# Altium schematic symbol library U1881.SchLib: 1 symbol
Pins are listed as number, name and electrical type; pins without a type are passive.

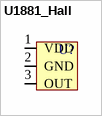
[diagram p0: symbol U1881_Hall]

## U1881_Hall
designator U?  (value not drawn)
footprint U1881
pins: 1 VDD, 2 GND, 3 OUT